# EAGLE library part NRF24L01 (library 1_domaci)
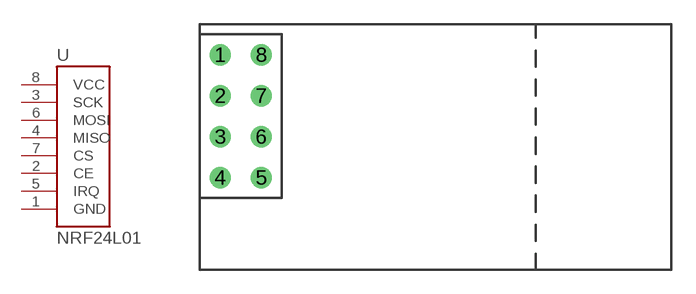
[diagram p10: symbol with the pads of NRF24L01; footprint NRF24L01]

Designator prefix U

## NRF24L01  [NRF24L01]
1  GND  pwr
2  CE
3  SCK
4  MISO
5  IRQ
6  MOSI
7  CS
8  VCC  pwr

## Footprint NRF24L01 (pad centres in mm)
drill 0.8: 1 -1.27,5.08; 2 -1.27,2.54; 3 -1.27,0; 4 -1.27,-2.54; 5 1.27,-2.54; 6 1.27,0; 7 1.27,2.54; 8 1.27,5.08